# EAGLE library part 1054500101 (library con-usb)
USB-C (USB TYPE-C) USB 3.2 Gen 2 (USB 3.1 Gen 2, Superspeed + (USB 3.1)) Receptacle Connector 24 Position Surface Mount, Right Angle; Through Hole
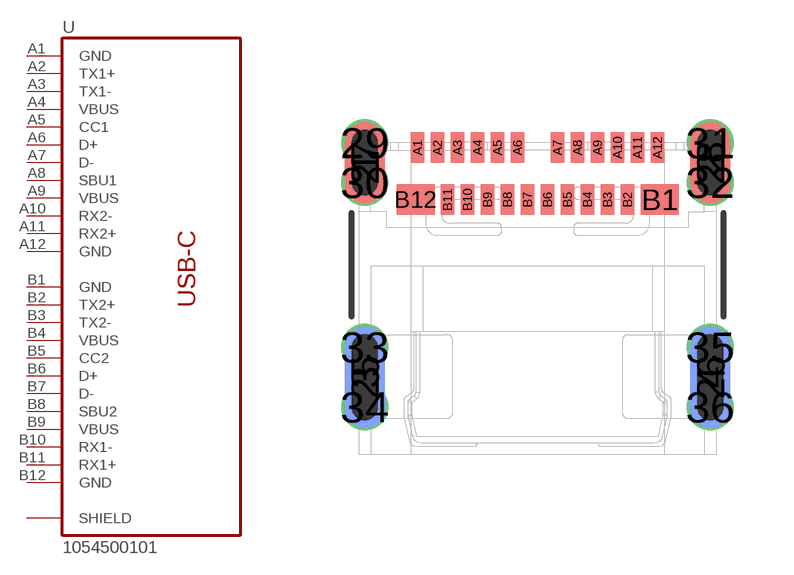
[diagram p14: symbol with the pads of 1054500101; footprint 1054500101]

Designator prefix U

## 1054500101  [1054500101]
1  SHIELD
2  SHIELD
3  SHIELD
4  SHIELD
25  SHIELD
26  SHIELD
27  SHIELD
28  SHIELD
29  SHIELD
30  SHIELD
31  SHIELD
32  SHIELD
33  SHIELD
34  SHIELD
35  SHIELD
36  SHIELD
A1  GND
A2  TX1+
A3  TX1-
A4  VBUS
A5  CC1
A6  D+
A7  D-
A8  SBU1
A9  VBUS
A10  RX2-
A11  RX2+
A12  GND
B1  GND
B2  TX2+
B3  TX2-
B4  VBUS
B5  CC2
B6  D+
B7  D-
B8  SBU2
B9  VBUS
B10  RX1-
B11  RX1+
B12  GND

## Footprint 1054500101 (pad centres in mm)
CONN RCP USB3.1 TYPE-C 24P SMD RA
smd 1 x 2.032: 1 -4.32,7.291; 2 4.32,7.291
smd 1 x 2.54 bottom: 3 -4.32,1.931; 4 4.32,1.931
smd 1 x 2.54: 25 -4.32,1.931; 26 4.32,1.931
smd 1 x 2.032 bottom: 27 -4.32,7.291; 28 4.32,7.291
drill 0.66 pad 0.66: 29 -4.318,7.791; 30 -4.318,6.8; 31 4.318,7.791; 32 4.318,6.8; 33 -4.318,2.685; 34 -4.318,1.187; 35 4.318,2.685; 36 4.318,1.187
smd 0.33 x 0.762: A1 -3,7.67; A2 -2.5,7.67; A3 -2,7.67; A4 -1.5,7.67; A5 -1,7.67; A6 -0.5,7.67; A7 0.5,7.67; A8 1,7.67; A9 1.5,7.67; A10 2,7.67; A11 2.5,7.67; A12 3,7.67; B2 2.25,6.37; B3 1.75,6.37; B4 1.25,6.37; B5 0.75,6.37; B6 0.25,6.37; B7 -0.25,6.37; B8 -0.75,6.37; B9 -1.25,6.37; B10 -1.75,6.37; B11 -2.25,6.37
smd 0.95 x 0.762: B1 3.05,6.37; B12 -3.05,6.37